# Altium footprint library PCB - LEADED - SOP - TI HTSSOP-16 PWP.PCBLIB: 1 footprints
Each footprint in its own frame and in the unit in brackets; x right, y up, seen from the top. Pads: shape width x height; smd on the part's side, far side on the other; paste and mask are expansions set on the pad; w line width, h text height; cw(c..) or ccw(c..) is an arc to the next point about the centre after c.
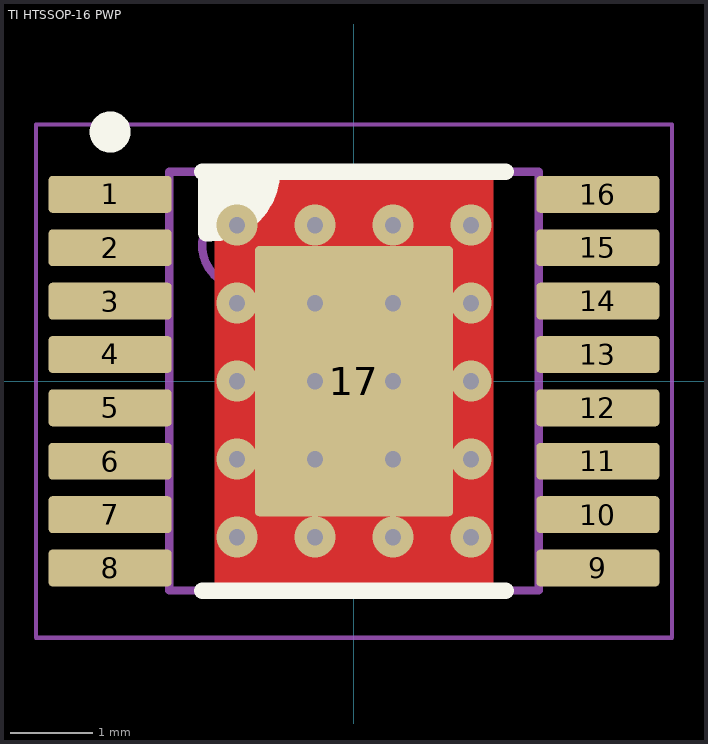
[diagram p0: the footprint, top view; thin cyan lines are the x and y axes]

## TI HTSSOP-16 PWP [mm] "HTSSOP, 16-Leads, Body 5.00x4.40mm, Pitch 0.65mm, Thermal Pad 3.10x3.00mm, IPC Medium Density"
height 1.2
pads (17):
  rrect22% 1.5x0.45 smd: 1(-2.97,2.275) 2(-2.97,1.625) 3(-2.97,0.975) 4(-2.97,0.325) 5(-2.97,-0.325) 6(-2.97,-0.975) 7(-2.97,-1.625) 8(-2.97,-2.275) 9(2.97,-2.275) 10(2.97,-1.625) 11(2.97,-0.975) 12(2.97,-0.325) 13(2.97,0.325) 14(2.97,0.975) 15(2.97,1.625) 16(2.97,2.275)
  rrect4% 2.41x3.29 smd mask+0: 17(0,0)
via -1.425,-1.9 diameter 0.5 hole 0.2
via -1.425,-0.95 diameter 0.5 hole 0.2
via -1.425,1.9 diameter 0.5 hole 0.2
via -1.425,0.95 diameter 0.5 hole 0.2
via -1.425,0 diameter 0.5 hole 0.2
via 1.425,-1.9 diameter 0.5 hole 0.2
via 1.425,-0.95 diameter 0.5 hole 0.2
via 1.425,1.9 diameter 0.5 hole 0.2
via 1.425,0.95 diameter 0.5 hole 0.2
via 1.425,0 diameter 0.5 hole 0.2
via -0.475,-1.9 diameter 0.5 hole 0.2
via -0.475,-0.95 diameter 0.5 hole 0.2
via -0.475,1.9 diameter 0.5 hole 0.2
via -0.475,0.95 diameter 0.5 hole 0.2
via -0.475,0 diameter 0.5 hole 0.2
via 0.475,-1.9 diameter 0.5 hole 0.2
via 0.475,-0.95 diameter 0.5 hole 0.2
via 0.475,1.9 diameter 0.5 hole 0.2
via 0.475,0.95 diameter 0.5 hole 0.2
via 0.475,0 diameter 0.5 hole 0.2
Top Layer:
  rectangle: -1.7,-2.5 1.7,2.5
Top Overlay:
  circle w0.25: c-2.97,3.035 r0.125
  region: -1,2.55 -1,2.3 -1.5,1.8 -1.8,1.8 -1.8,2.5
  lines w0.2: -1.85,-2.55 1.85,-2.55 ; -1,2.55 cw(c-1.75,2.55) -1.75,1.8 -1.8,1.8 -1.8,2.5 ccw(c-1.85,2.5) -1.85,2.55 1.85,2.55
Mechanical 13:
  circle w0.1: c-1.35,1.65 r0.5
  lines w0.1: -2.25,-2.55 2.25,-2.55 2.25,2.55 -2.25,2.55 -2.25,-2.55
Mechanical 15:
  lines w0.05: -3.875,-3.125 -3.875,3.125 3.875,3.125 3.875,-3.125 -3.875,-3.125
  lines w0.1: -0.5,0 0.5,0 ; 0,-0.5 0,0.5
3D body "HTSSOP-16-TI-PWP.step": height 1.2, standoff 0, extent -3.21,-2.5 3.211,2.5